# EAGLE library part MCP3208-CI/SL (library collin)
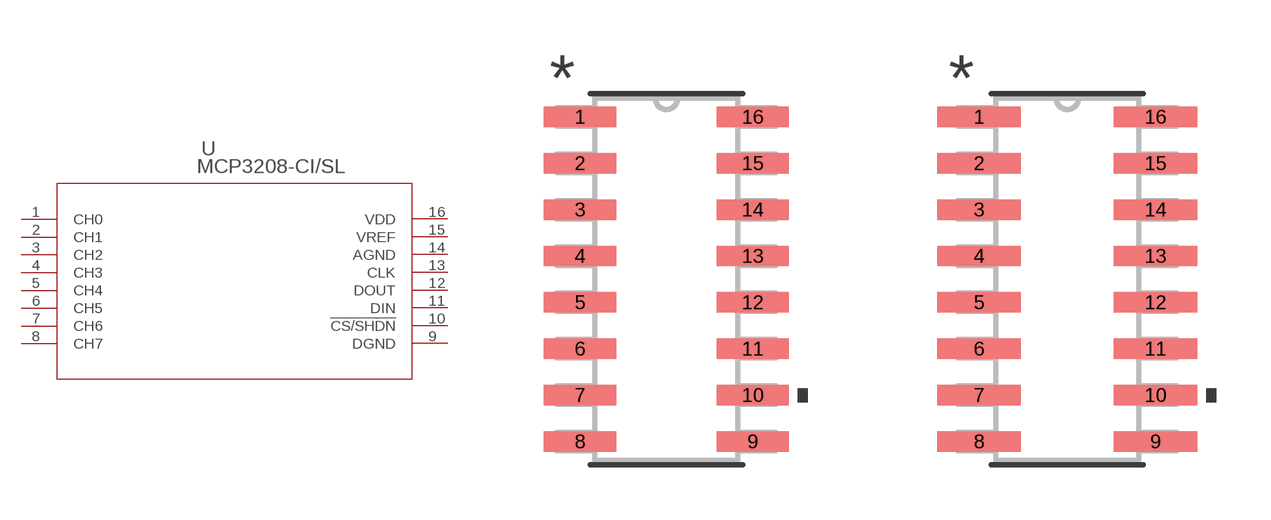
[diagram p14: symbol with the pads of SOIC16-N_MC_MCH; footprints SOIC16-N_MC_MCH, SOIC16-N_MC_MCH-M]

Designator prefix U

## MCP3208-CI/SL (BUILT_BY: EMA_UL_Team; MANUFACTURER_PART_NUMBER: MCP3208-CI/SL; SOURCELIBRARY: Microchip_2011-05-13; VENDOR: Microchip)  [SOIC16-N_MC_MCH]
1  CH0  in
2  CH1  in
3  CH2  in
4  CH3  in
5  CH4  in
6  CH5  in
7  CH6  in
8  CH7  in
9  DGND  pas
10  !CS/SHDN  in
11  DIN  in
12  DOUT  out
13  CLK  in
14  AGND  pas
15  VREF  in
16  VDD  pas

## MCP3208-CI/SLSOIC16-N_MC_MCH-M (BUILT_BY: EMA_UL_Team; MANUFACTURER_PART_NUMBER: MCP3208-CI/SL; SOURCELIBRARY: Microchip_2011-05-13; VENDOR: Microchip)  [SOIC16-N_MC_MCH-M]
Pads as for SOIC16-N_MC_MCH

## MCP3208-CI/SLSOIC16-N_MC_MCH-L (BUILT_BY: EMA_UL_Team; MANUFACTURER_PART_NUMBER: MCP3208-CI/SL; SOURCELIBRARY: Microchip_2011-05-13; VENDOR: Microchip)  [SOIC16-N_MC_MCH-L]
Pads as for SOIC16-N_MC_MCH

## Footprint SOIC16-N_MC_MCH (pad centres in mm)
smd 1.981 x 0.559: 1 -2.362,4.445; 2 -2.362,3.175; 3 -2.362,1.905; 4 -2.362,0.635; 5 -2.362,-0.635; 6 -2.362,-1.905; 7 -2.362,-3.175; 8 -2.362,-4.445; 9 2.362,-4.445; 10 2.362,-3.175; 11 2.362,-1.905; 12 2.362,-0.635; 13 2.362,0.635; 14 2.362,1.905; 15 2.362,3.175; 16 2.362,4.445

## Footprint SOIC16-N_MC_MCH-M (pad centres in mm)
smd 2.286 x 0.559: 1 -2.413,4.445; 2 -2.413,3.175; 3 -2.413,1.905; 4 -2.413,0.635; 5 -2.413,-0.635; 6 -2.413,-1.905; 7 -2.413,-3.175; 8 -2.413,-4.445; 9 2.413,-4.445; 10 2.413,-3.175; 11 2.413,-1.905; 12 2.413,-0.635; 13 2.413,0.635; 14 2.413,1.905; 15 2.413,3.175; 16 2.413,4.445

## Footprint SOIC16-N_MC_MCH-L (pad centres in mm)
smd 1.676 x 0.508: 1 -2.311,4.445; 2 -2.311,3.175; 3 -2.311,1.905; 4 -2.311,0.635; 5 -2.311,-0.635; 6 -2.311,-1.905; 7 -2.311,-3.175; 8 -2.311,-4.445; 9 2.311,-4.445; 10 2.311,-3.175; 11 2.311,-1.905; 12 2.311,-0.635; 13 2.311,0.635; 14 2.311,1.905; 15 2.311,3.175; 16 2.311,4.445